# Altium footprint library AMPHENOL_A-1JB.PcbLib: 1 footprints
Each footprint in its own frame and in the unit in brackets; x right, y up, seen from the top. Pads: shape width x height; smd on the part's side, far side on the other; paste and mask are expansions set on the pad; w line width, h text height; cw(c..) or ccw(c..) is an arc to the next point about the centre after c.
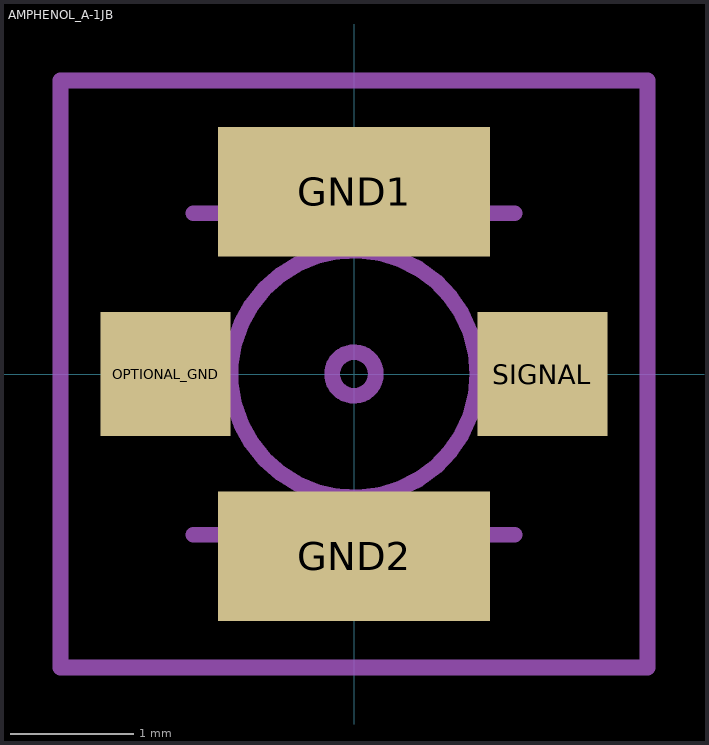
[diagram p0: the footprint, top view; thin cyan lines are the x and y axes]

## AMPHENOL_A-1JB [mm]
pads (4):
  rect 2.2x1.05 smd: GND1(0,1.475) GND2(0,-1.475)
  rect 1.05x1 smd: OPTIONAL_GND(-1.525,0) SIGNAL(1.525,0)
Mechanical 13:
  circle w0.127: c0,0 r0.177
  circle w0.127: c0,0 r1
  lines w0.127: -1.3,-1.3 1.3,-1.3 ; -1.3,1.3 1.3,1.3
Mechanical 15:
  lines w0.127: -2.375,-2.375 -2.375,2.375 2.375,2.375 2.375,-2.375 -2.375,-2.375
3D body "A-1JB.stp": height 1.25, standoff 0, extent -1.601,-1.555 1.499,1.445